# Altium integrated library Linear Technology PMIC-Switching Reg LTC1174-LTC3901.IntLib: 2647 symbols (part 79 of 310)
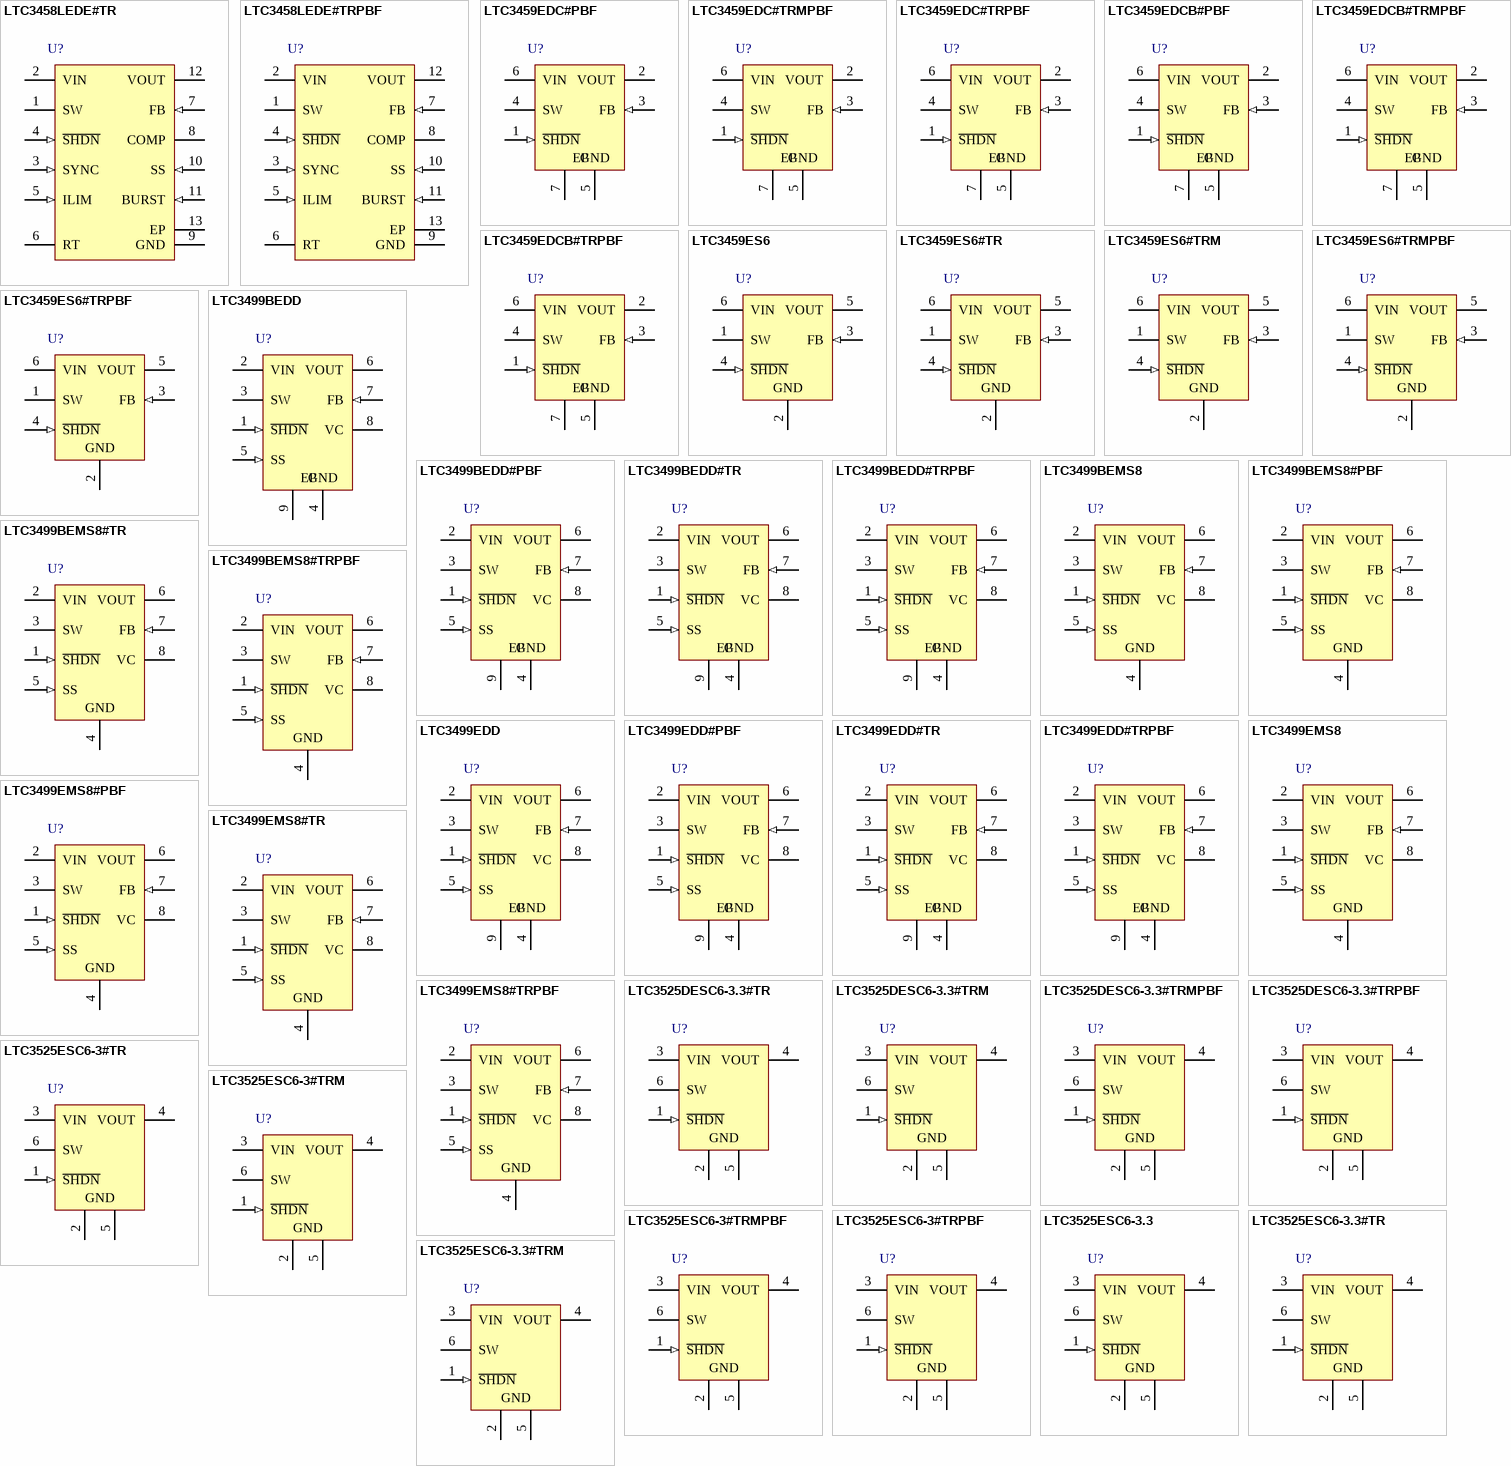
[diagram p260: symbols LTC3458LEDE#TR to LTC3525ESC6-3.3#TRM]

## LTC3499BEDD
designator U?
750 mA Synchronous Step-Up DC/DC Converter with Reverse-Battery Protection, 8-pin SON (DD-8), -40 to 85 degC; Manufacturer: Linear Technology; PartNumber: LTC3499BEDD; Number of Outputs: 1; PackageReference: DD-8; PackageDescription: 8-Pin Plastic DFN, Body 3 x 3 mm, Pitch 0.5 mm; RoHS: FALSE; Code_JEDEC: MO-229
footprint LT-DD-8_V (SON, 8-Leads, Body 3x3mm, Pitch 0.5mm, Thermal Pad 1.65x2.38 mm)
pins: 1 ~{SHDN} (in) "Shutdown Input for IC. Connect to a voltage greater than 1.2V to enable and a voltage less than 0.2V to disable the LTC3499/LTC3499B.", 2 VIN (power) "Input Supply Voltage. The valid operating voltage is between 1.8V to 5.5V. VIN has reverse battery protection. Since the LTC3499/LTC3499B use VIN as the main bias source, bypass with a low ESR ceramic capacitor of at least 2.(See Datasheet)", 3 SW "Switch Pin. Connect an inductor from VIN to this pin with a value between 2.2uH and 10uH. Keep PCB trace lengths as short and wide as possible to minimize EMI and voltage overshoot. If the inductor current falls to zero or (See Datasheet)", 4 GND (power) "Signal and Power Ground. The DD package exposed pad must be soldered to the PCB power ground plane for electrical connection and rated thermal performance.", 5 SS (in) "Soft-Start Input. Connect a capacitor from SS to ground to control the inrush current at start-up. An internal 3uA current source charges this pin. SS will be discharged if S\H\D\N\ is pulled low, thermal shutdown occurs or (See Datasheet)", 6 VOUT (power) "Power Supply Output. Connect a low ESR output filter capacitor from this pin to the ground plane.", 7 FB (in) "FB Input to Error Amplifier. Connect a resistor divider tap from VOUT to this pin to set the output voltage. The output voltage can be adjusted between 2V and 6V.", 8 VC "Error Amplifier Output. A frequency compensation network is connected from this pin to GND to compensate the boost converter loop. See Closing the Feedthrough Loop section for guidelines.", 9 EP (power) "Signal and Power Ground. The DD package exposed pad must be soldered to the PCB power ground plane for electrical connection and rated thermal performance."

## LTC3499BEDD#PBF
designator U?
750 mA Synchronous Step-Up DC/DC Converter with Reverse-Battery Protection, 8-pin SON (DD-8), -40 to 85 degC, Pb-Free; Manufacturer: Linear Technology; PartNumber: LTC3499BEDD#PBF; Number of Outputs: 1; PackageReference: DD-8; PackageDescription: 8-Pin Plastic DFN, Body 3 x 3 mm, Pitch 0.5 mm; Supplier 1: Digi-Key; Supplier Part Number 1: LTC3499BEDD#PBF-ND; RoHS: TRUE; Code_JEDEC: MO-229
footprint LT-DD-8_V (SON, 8-Leads, Body 3x3mm, Pitch 0.5mm, Thermal Pad 1.65x2.38 mm)
pins: 1 ~{SHDN} (in) "Shutdown Input for IC. Connect to a voltage greater than 1.2V to enable and a voltage less than 0.2V to disable the LTC3499/LTC3499B.", 2 VIN (power) "Input Supply Voltage. The valid operating voltage is between 1.8V to 5.5V. VIN has reverse battery protection. Since the LTC3499/LTC3499B use VIN as the main bias source, bypass with a low ESR ceramic capacitor of at least 2.(See Datasheet)", 3 SW "Switch Pin. Connect an inductor from VIN to this pin with a value between 2.2uH and 10uH. Keep PCB trace lengths as short and wide as possible to minimize EMI and voltage overshoot. If the inductor current falls to zero or (See Datasheet)", 4 GND (power) "Signal and Power Ground. The DD package exposed pad must be soldered to the PCB power ground plane for electrical connection and rated thermal performance.", 5 SS (in) "Soft-Start Input. Connect a capacitor from SS to ground to control the inrush current at start-up. An internal 3uA current source charges this pin. SS will be discharged if S\H\D\N\ is pulled low, thermal shutdown occurs or (See Datasheet)", 6 VOUT (power) "Power Supply Output. Connect a low ESR output filter capacitor from this pin to the ground plane.", 7 FB (in) "FB Input to Error Amplifier. Connect a resistor divider tap from VOUT to this pin to set the output voltage. The output voltage can be adjusted between 2V and 6V.", 8 VC "Error Amplifier Output. A frequency compensation network is connected from this pin to GND to compensate the boost converter loop. See Closing the Feedthrough Loop section for guidelines.", 9 EP (power) "Signal and Power Ground. The DD package exposed pad must be soldered to the PCB power ground plane for electrical connection and rated thermal performance."

## LTC3499BEDD#TR
designator U?
750 mA Synchronous Step-Up DC/DC Converter with Reverse-Battery Protection, 8-pin SON (DD-8), -40 to 85 degC, Tape and Reel; Manufacturer: Linear Technology; PartNumber: LTC3499BEDD#TR; Number of Outputs: 1; PackageReference: DD-8; PackageDescription: 8-Pin Plastic DFN, Body 3 x 3 mm, Pitch 0.5 mm; RoHS: FALSE; Code_JEDEC: MO-229
footprint LT-DD-8_V (SON, 8-Leads, Body 3x3mm, Pitch 0.5mm, Thermal Pad 1.65x2.38 mm)
pins: 1 ~{SHDN} (in) "Shutdown Input for IC. Connect to a voltage greater than 1.2V to enable and a voltage less than 0.2V to disable the LTC3499/LTC3499B.", 2 VIN (power) "Input Supply Voltage. The valid operating voltage is between 1.8V to 5.5V. VIN has reverse battery protection. Since the LTC3499/LTC3499B use VIN as the main bias source, bypass with a low ESR ceramic capacitor of at least 2.(See Datasheet)", 3 SW "Switch Pin. Connect an inductor from VIN to this pin with a value between 2.2uH and 10uH. Keep PCB trace lengths as short and wide as possible to minimize EMI and voltage overshoot. If the inductor current falls to zero or (See Datasheet)", 4 GND (power) "Signal and Power Ground. The DD package exposed pad must be soldered to the PCB power ground plane for electrical connection and rated thermal performance.", 5 SS (in) "Soft-Start Input. Connect a capacitor from SS to ground to control the inrush current at start-up. An internal 3uA current source charges this pin. SS will be discharged if S\H\D\N\ is pulled low, thermal shutdown occurs or (See Datasheet)", 6 VOUT (power) "Power Supply Output. Connect a low ESR output filter capacitor from this pin to the ground plane.", 7 FB (in) "FB Input to Error Amplifier. Connect a resistor divider tap from VOUT to this pin to set the output voltage. The output voltage can be adjusted between 2V and 6V.", 8 VC "Error Amplifier Output. A frequency compensation network is connected from this pin to GND to compensate the boost converter loop. See Closing the Feedthrough Loop section for guidelines.", 9 EP (power) "Signal and Power Ground. The DD package exposed pad must be soldered to the PCB power ground plane for electrical connection and rated thermal performance."